# Altium footprint library PCB.PcbLib: 2 footprints
Each footprint in its own frame and in the unit in brackets; x right, y up, seen from the top. Pads: shape width x height; smd on the part's side, far side on the other; paste and mask are expansions set on the pad; w line width, h text height; cw(c..) or ccw(c..) is an arc to the next point about the centre after c.
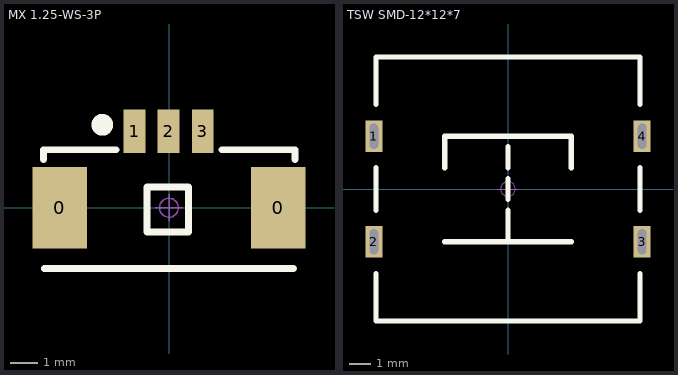
[diagram p0: the footprints below, top view; thin cyan lines are the x and y axes]

## MX 1.25-WS-3P [mm] "长：8.9mm，宽：4.2mm，高：3.4mm"
pads (5):
  rect 2x3 smd: 0(-4.007,0) 0(4.007,0)
  rect 0.8x1.6 smd: 1(-1.264,2.811) 2(-0.014,2.811) 3(1.236,2.811)
Top Overlay:
  circle w0.4: c-2.449,3.048 r0.2
  lines w0.254: -4.608,1.778 -4.608,2.134 -1.941,2.134 ; -4.581,-2.228 4.576,-2.228 ; 1.953,2.134 4.62,2.134 4.62,1.778 ; -0.814,-0.889 -0.814,0.762 0.71,0.762 0.71,-0.889 -0.814,-0.889
Mechanical 15:
  circle w0.05: c0,0 r0.35
  lines w0.05: -0.5,0 0.5,0 ; 0,-0.5 0,0.5
3D body: height 3.4, standoff 0, extent -4.45,-2.1 4.45,3.09

## TSW SMD-12*12*7 [mm] "12*12*7mm"
pads (4):
  rect 0.8x1.5 hole 0.4 slot 1.2 at 90 deg: 1(-6.35,2.5) 2(-6.35,-2.5) 3(6.35,-2.5) 4(6.35,2.5)
Top Overlay:
  lines w0.254: -6.25,-4 -6.25,-6.25 6.25,-6.25 6.25,-4 ; -6.25,-1 -6.25,1 ; -6.25,4 -6.25,6.25 6.25,6.25 6.25,4 ; -3,-2.5 3,-2.5 ; -3,1 -3,2.5 3,2.5 3,1 ; 0,-2.5 0,-1 ; 0,-0.5 0,0.5 ; 0,1 0,2 ; 6.25,-1 6.25,1
Mechanical 15:
  circle w0.05: c0,0 r0.35
  lines w0.05: -0.5,0 0.5,0 ; 0,-0.5 0,0.5
3D body: height 7.15, standoff 0, extent -7.6,-6 7.6,6